# Altium footprint library bidirectional_audio.PcbLib: 7 footprints
Each footprint in its own frame and in the unit in brackets; x right, y up, seen from the top. Pads: shape width x height; smd on the part's side, far side on the other; paste and mask are expansions set on the pad; w line width, h text height; cw(c..) or ccw(c..) is an arc to the next point about the centre after c.
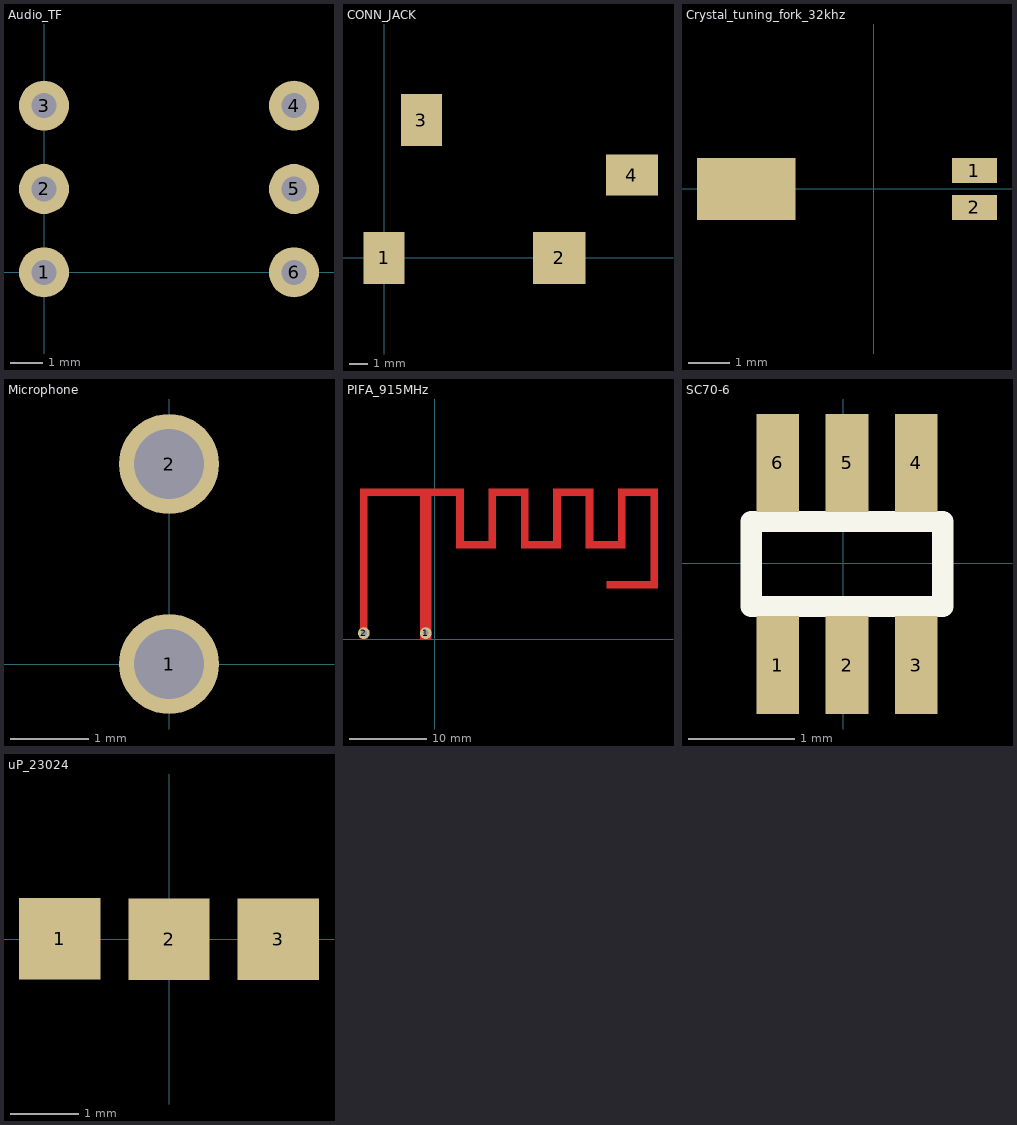
[diagram p0: the footprints below, top view; thin cyan lines are the x and y axes]

## Audio_TF [mil] "Audio Transformer Triad"
height 100
pads (6):
  round 60 hole 30: 1(0,0) 2(0,100) 3(0,200) 4(300,200) 5(300,100) 6(300,0)
3D body: height 100, standoff 0, extent -30,-35 330,235

## CONN_JACK [mm] "PCB footprint for the headphone jack"
pads (4):
  rect 2.2x2.8 smd: 1(0,0) 3(2,7.4)
  rect 2.8x2.8 smd: 2(9.4,0)
  rect 2.8x2.2 smd: 4(13.3,4.45)

## Crystal_tuning_fork_32khz [mm]
pads (3):
  rect 1.1x0.6 smd: 1(2.45,0.45) 2(2.45,-0.45)
  rect 2.4x1.5 smd: ""(-3.1,0)

## Microphone [mil] "Footprint for Electret Microphone"
pads (2):
  round 50 hole 35: 1(0,0) 2(0,100)

## PIFA_915MHz [mil]
pads (2):
  round 60 hole 30: 1(-47.24,32.68) 2(-363.39,32.68)
Top Layer:
  rectangle: -17.72,732.28 147.64,771.65
  region: 147.64,771.65 108.27,771.65 108.27,503.94 147.64,503.94
  rectangle: 108.27,464.57 312.99,503.94
  rectangle: 273.62,503.94 312.99,771.65
  rectangle: 273.62,732.28 478.35,771.65
  rectangle: 438.98,503.94 478.35,771.65
  rectangle: 438.98,464.57 643.7,503.94
  rectangle: 604.33,503.94 643.7,771.65
  rectangle: 604.33,732.28 809.06,771.65
  rectangle: 769.68,503.94 809.06,771.65
  rectangle: 769.68,464.57 974.41,503.94
  rectangle: 935.04,503.94 974.41,771.65
  rectangle: 875.98,259.84 1100.39,299.21
  rectangle: 1100.39,259.84 1139.76,732.28
  rectangle: 935.04,732.28 1139.76,771.65
  rectangle: -76.77,0 -17.72,732.28
  rectangle: -343.7,732.28 -17.72,771.65
  rectangle: -383.07,3.94 -343.7,771.65

## SC70-6 [mm] "Audio Switch"
pads (6):
  rect 0.4x0.92 smd: 1(-0.616,-0.957) 2(0.034,-0.957) 3(0.684,-0.957) 4(0.684,0.943) 5(0.034,0.943) 6(-0.616,0.943)
Top Overlay:
  lines w0.2: -0.866,-0.407 -0.866,0.393 0.934,0.393 0.934,-0.407 -0.866,-0.407

## uP_23024 [mm]
pads (3):
  rect 1.2x1.2 smd: 1(-1.61,0.01) 2(0,0) 3(1.61,0)